# EAGLE library part AUDIO-JACK-8P-SMD (library Connector)
When you use the footprint ,place notice 46 (layer)milling ,there is some important information.
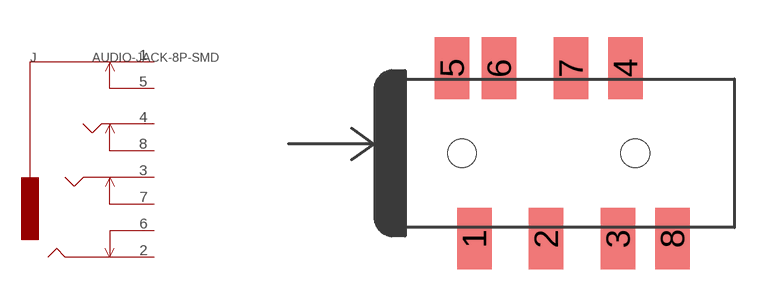
[diagram p16: symbol with the pads of PJ-3536-L6S; footprint PJ-3536-L6S]

Designator prefix J

## AUDIO-JACK-8P-SMD-320040003  [PJ-3536-L6S]
1  1
2  2
3  3
4  4
5  5
6  6
7  7
8  8

## Footprint PJ-3536-L6S (pad centres in mm)
smd 1.4 x 2.5: 1 2.8,-3.45; 2 5.7,-3.45; 3 8.6,-3.45; 4 8.9,3.45; 5 1.9,3.45; 6 3.8,3.45; 7 6.7,3.45; 8 10.8,-3.45
hole 1.149 at 2.3,0
hole 1.149 at 9.3,0